# Altium schematic symbol library IC_all.SchLib: 10 symbols
Pins are listed as number, name and electrical type; pins without a type are passive.

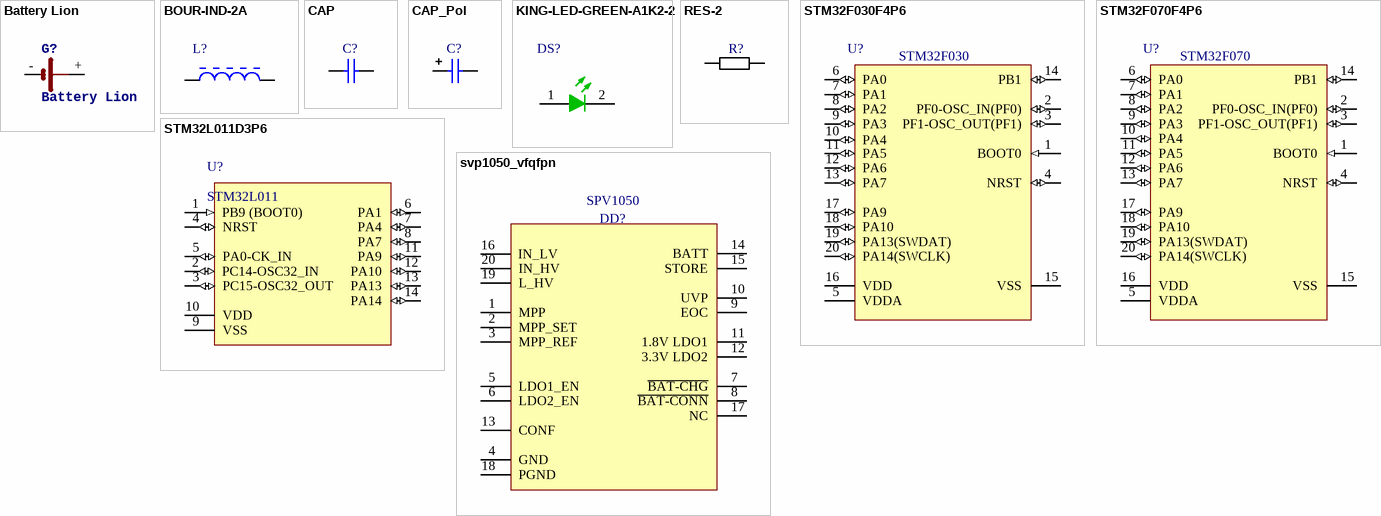
[diagram p0: symbols Battery Lion to svp1050_vfqfpn]

## Battery Lion
designator G?
footprint ML1220 (Litium battery 3V rechargable)
footprint ML2020 (Litium battery 3V rechargable)
pins: +, -

## BOUR-IND-2A
designator L?
footprint BOUR-CM322522_V (Inductor, 2-Leads, Body 3.2x2.5mm, Pitch 3.05mm)
footprint BOUR-SDR0403-2_V (SMD, 2-Leads, Dia 4.5mm, Height 3.5mm)
footprint BOUR-SRN3015-2_V (SMD, 2-Leads, Body 3x3mm, Height 1.5mm)
footprint BOUR-SRU2013-2R2Y-2_V (Hand Drawn, 2-Leads, Body 2.8x2.8mm)
pins: 1, 2

## CAP
designator C?  (value not drawn)
footprint CAPC0603(1608)100_L (Chip Capacitor, Body 1.6x0.8mm, Height 1.0mm, IPC High Density)
footprint CAPC0603(1608)100_N (Chip Capacitor, Body 1.6x0.8mm, Height 1.0mm, IPC Medium Density)
footprint CAPC0805(2012)75_L (Chip Capacitor, Body 2.0x1.2mm, Height 0.75mm, IPC High Density)
footprint CAPC0805(2012)100_N (Chip Capacitor, Body 2.0x1.2mm, Height 1.0mm, IPC Medium Density)
pins: 1, 2
1 alternate drawing of the same symbol

## CAP_Pol
designator C?, comment CAP_pol  (value not drawn)
footprint EEC-S0HD224HN (Supercap)
pins: + 1, - 2
1 alternate drawing of the same symbol

## KING-LED-GREEN-A1K2-2
designator DS?
pins: 1 A, 2 K

## RES-2
designator R?
footprint RESC0805(2012)_N (Chip Resistor, Body 2.0x1.3mm, IPC Medium Density)
footprint RESC0603(1608)_L (Chip Resistor, Body 1.6x0.8mm, IPC High Density)
footprint RESC0603(1608)_N (Chip Resistor, Body 1.6x0.8mm, IPC Medium Density)
footprint RESC0805(2012)_L (Chip Resistor, Body 2.0x1.3mm, IPC High Density)
pins: 1, 2
1 alternate drawing of the same symbol

## STM32F030F4P6
designator U?, comment STM32F030
ARM Cortex-M0 32-bit MCU, 32 KB Flash, 4 KB Internal RAM, 15 I/Os, 20-pin TSSOP, -40 to 85 degC, Tube; PartNumber: STM32F050F6P6; FLASH Size (Prog) (kB): 32; I/Os (High Current): 15; Internal RAM Size (kB): 4; Operating Frequency(F) (Processor speed) (MHz): 48; Supply Voltage(Vcc) min (V): 2; DatasheetVersion: Rev. 1; PackageVersion: Rev. 1, 11/2012; PackageReference: TSSOP20; PackageDescription: 20-Pin Thin Shrink Small Outline Package, 6.5 x 4.4 mm Body, 0.65 mm Pitch; Supplier 1: Digi-Key; Supplier Part Number 1: STM32F050F6P6-ND; Supplier 2: Farnell; Supplier Part Number 2: 2333136; Supplier 3: Newark; Supplier Part Number 3: 99W9749; Supplier 4: Newark; Supplier Part Number 4: 89W1489; Supplier 5: Mouser; Supplier Part Number 5: 511-STM32F050F6P6; Core: ARM Cortex-M0; Packing: Tube; Mounting Technology: Surface Mount; ComponentLink1Description: Manufacturer URL; ComponentLink1URL: http://www.st.com/web/en/home.html; ComponentLink2Description: Datasheet; ComponentLink2URL: http://www.st.com/st-web-ui/static/active/en/resource/technical/document/datasheet/DM00065136.pdf; ComponentLink3Description: Package Specification; ComponentLink3URL: http://www.st.com/st-web-ui/static/active/en/resource/technical/document/datasheet/DM00065136.pdf
footprint SOP127P600-8N
pins: 1 BOOT0 (in) "Boot memory selection", 2 PF0-OSC_IN(PF0) (io) "PF0-OSC_IN(PF0)/OSC_IN", 3 PF1-OSC_OUT(PF1) (io) "PF1-OSC_OUT(PF1)/OSC_OUT", 4 NRST (io) "Device reset input / internal reset output (active low)", 5 VDDA (power) "Analog power supply", 6 PA0 (io) "PA0/TIM2_CH1_ETR,USART1_CTS/ADC_IN0,RTC_TAMP2,WKUP1", 7 PA1 (io) "PA1/TIM2_CH2,EVENTOUT,USART1_RTS/ADC_IN1", 8 PA2 (io) "PA2/TIM2_CH3,USART1_TX/ADC_IN2", 9 PA3 (io) "PA3/TIM2_CH4,USART1_RX/ADC_IN3", 10 PA4 (io) "PA4/SPI1_NSS,I2S1_WS,TIM14_CH1,USART1_CK/ADC_IN4", 11 PA5 (io) "PA5/SPI1_SCK,I2S1_CK,TIM2_CH1_ETR/ADC_IN5", 12 PA6 (io) "PA6/SPI1_MISO,I2S1_MCK,TIM3_CH1,TIM1_BKIN,TIM16_CH1,EVENTOUT/ADC_IN6", 13 PA7 (io) "PA7/SPI1_MOSI,I2S1_SD,TIM3_CH2,TIM14_CH1,TIM1_CH1N,TIM17_CH1,EVENTOUT/ADC_IN7", 14 PB1 (io) "PB1/TIM3_CH4,TIM14_CH1,TIM1_CH3N/ADC_IN9", 15 VSS (power) "Ground", 16 VDD (power) "Digital power supply", 17 PA9 (io) "PA9/USART1_TX,TIM1_CH2,I2C1_SCL", 18 PA10 (io) "PA10/USART1_RX,TIM1_CH3,TIM17_BKIN,I2C1_SDA", 19 PA13(SWDAT) (io) "PA13(SWDAT)/IR_OUT,SWDAT", 20 PA14(SWCLK) (io) "PA14(SWCLK)/SWCLK,USART1_TX"

## STM32F070F4P6
designator U?, comment STM32F070
ARM Cortex-M0 32-bit MCU, 32 KB Flash, 4 KB Internal RAM, 15 I/Os, 20-pin TSSOP, -40 to 85 degC, Tube; PartNumber: STM32F050F6P6; FLASH Size (Prog) (kB): 32; I/Os (High Current): 15; Internal RAM Size (kB): 4; Operating Frequency(F) (Processor speed) (MHz): 48; Supply Voltage(Vcc) min (V): 2; DatasheetVersion: Rev. 1; PackageVersion: Rev. 1, 11/2012; PackageReference: TSSOP20; PackageDescription: 20-Pin Thin Shrink Small Outline Package, 6.5 x 4.4 mm Body, 0.65 mm Pitch; Supplier 1: Digi-Key; Supplier Part Number 1: STM32F050F6P6-ND; Supplier 2: Farnell; Supplier Part Number 2: 2333136; Supplier 3: Newark; Supplier Part Number 3: 99W9749; Supplier 4: Newark; Supplier Part Number 4: 89W1489; Supplier 5: Mouser; Supplier Part Number 5: 511-STM32F050F6P6; Core: ARM Cortex-M0; Packing: Tube; Mounting Technology: Surface Mount; ComponentLink1Description: Manufacturer URL; ComponentLink1URL: http://www.st.com/web/en/home.html; ComponentLink2Description: Datasheet; ComponentLink2URL: http://www.st.com/st-web-ui/static/active/en/resource/technical/document/datasheet/DM00065136.pdf; ComponentLink3Description: Package Specification; ComponentLink3URL: http://www.st.com/st-web-ui/static/active/en/resource/technical/document/datasheet/DM00065136.pdf
footprint SOP127P600-8N
pins: 1 BOOT0 (in) "Boot memory selection", 2 PF0-OSC_IN(PF0) (io) "PF0-OSC_IN(PF0)/OSC_IN", 3 PF1-OSC_OUT(PF1) (io) "PF1-OSC_OUT(PF1)/OSC_OUT", 4 NRST (io) "Device reset input / internal reset output (active low)", 5 VDDA (power) "Analog power supply", 6 PA0 (io) "PA0/TIM2_CH1_ETR,USART1_CTS/ADC_IN0,RTC_TAMP2,WKUP1", 7 PA1 (io) "PA1/TIM2_CH2,EVENTOUT,USART1_RTS/ADC_IN1", 8 PA2 (io) "PA2/TIM2_CH3,USART1_TX/ADC_IN2", 9 PA3 (io) "PA3/TIM2_CH4,USART1_RX/ADC_IN3", 10 PA4 (io) "PA4/SPI1_NSS,I2S1_WS,TIM14_CH1,USART1_CK/ADC_IN4", 11 PA5 (io) "PA5/SPI1_SCK,I2S1_CK,TIM2_CH1_ETR/ADC_IN5", 12 PA6 (io) "PA6/SPI1_MISO,I2S1_MCK,TIM3_CH1,TIM1_BKIN,TIM16_CH1,EVENTOUT/ADC_IN6", 13 PA7 (io) "PA7/SPI1_MOSI,I2S1_SD,TIM3_CH2,TIM14_CH1,TIM1_CH1N,TIM17_CH1,EVENTOUT/ADC_IN7", 14 PB1 (io) "PB1/TIM3_CH4,TIM14_CH1,TIM1_CH3N/ADC_IN9", 15 VSS (power) "Ground", 16 VDD (power) "Digital power supply", 17 PA9 (io) "PA9/USART1_TX,TIM1_CH2,I2C1_SCL", 18 PA10 (io) "PA10/USART1_RX,TIM1_CH3,TIM17_BKIN,I2C1_SDA", 19 PA13(SWDAT) (io) "PA13(SWDAT)/IR_OUT,SWDAT", 20 PA14(SWCLK) (io) "PA14(SWCLK)/SWCLK,USART1_TX"

## STM32L011D3P6
designator U?, comment STM32L011
ARM Cortex-M0 32-bit MCU, 32 KB Flash, 4 KB Internal RAM, 15 I/Os, 20-pin TSSOP, -40 to 85 degC, Tube; PartNumber: STM32F050F6P6; FLASH Size (Prog) (kB): 32; I/Os (High Current): 15; Internal RAM Size (kB): 4; Operating Frequency(F) (Processor speed) (MHz): 48; Supply Voltage(Vcc) min (V): 2; DatasheetVersion: Rev. 1; PackageVersion: Rev. 1, 11/2012; PackageReference: TSSOP20; PackageDescription: 20-Pin Thin Shrink Small Outline Package, 6.5 x 4.4 mm Body, 0.65 mm Pitch; Supplier 1: Digi-Key; Supplier Part Number 1: STM32F050F6P6-ND; Supplier 2: Farnell; Supplier Part Number 2: 2333136; Supplier 3: Newark; Supplier Part Number 3: 99W9749; Supplier 4: Newark; Supplier Part Number 4: 89W1489; Supplier 5: Mouser; Supplier Part Number 5: 511-STM32F050F6P6; Core: ARM Cortex-M0; Packing: Tube; Mounting Technology: Surface Mount; ComponentLink1Description: Manufacturer URL; ComponentLink1URL: http://www.st.com/web/en/home.html; ComponentLink2Description: Datasheet; ComponentLink2URL: http://www.st.com/st-web-ui/static/active/en/resource/technical/document/datasheet/DM00065136.pdf; ComponentLink3Description: Package Specification; ComponentLink3URL: http://www.st.com/st-web-ui/static/active/en/resource/technical/document/datasheet/DM00065136.pdf
footprint TSOP65P640X120-14N1 (TSOP, 14-Leads, Body 5.00x4.40mm, Pitch 0.65mm, IPC Medium Density)
pins: 1 PB9 (BOOT0) (in) "Boot memory selection", 2 PC14-OSC32_IN (io) "PF0-OSC_IN(PF0)/OSC_IN", 3 PC15-OSC32_OUT (io) "PF1-OSC_OUT(PF1)/OSC_OUT", 4 NRST (io) "Device reset input / internal reset output (active low)", 5 PA0-CK_IN (io) "Analog power supply", 6 PA1 (io) "PA0/TIM2_CH1_ETR,USART1_CTS/ADC_IN0,RTC_TAMP2,WKUP1", 7 PA4 (io) "PA1/TIM2_CH2,EVENTOUT,USART1_RTS/ADC_IN1", 8 PA7 (io) "PA2/TIM2_CH3,USART1_TX/ADC_IN2", 9 VSS (power) "PA3/TIM2_CH4,USART1_RX/ADC_IN3", 10 VDD (power) "PA4/SPI1_NSS,I2S1_WS,TIM14_CH1,USART1_CK/ADC_IN4", 11 PA9 (io) "PA5/SPI1_SCK,I2S1_CK,TIM2_CH1_ETR/ADC_IN5", 12 PA10 (io) "PA6/SPI1_MISO,I2S1_MCK,TIM3_CH1,TIM1_BKIN,TIM16_CH1,EVENTOUT/ADC_IN6", 13 PA13 (io) "PA7/SPI1_MOSI,I2S1_SD,TIM3_CH2,TIM14_CH1,TIM1_CH1N,TIM17_CH1,EVENTOUT/ADC_IN7", 14 PA14 (io) "PB1/TIM3_CH4,TIM14_CH1,TIM1_CH3N/ADC_IN9"

## svp1050_vfqfpn
designator DD?, comment SPV1050
Ultralow power energy harvester and battery charger
footprint QFN40P300X300X100_HS-21N (QFN, 20-Leads, Body 3.00x3.00mm, Pitch 0.40mm, Thermal Pad 1.60x1.60mm, IPC Medium Density)
footprint QFN40P300X300X100_HS-21L (QFN, 20-Leads, Body 3.00x3.00mm, Pitch 0.40mm, Thermal Pad 1.60x1.60mm, IPC High Density)
pins: 1 MPP, 2 MPP_SET, 3 MPP_REF, 4 GND, 5 LDO1_EN, 6 LDO2_EN, 7 ~{BAT-CHG}, 8 ~{BAT-CONN}, 9 EOC, 10 UVP, 11 1.8V LDO1, 12 3.3V LDO2, 13 CONF, 14 BATT, 15 STORE, 16 IN_LV, 17 NC, 18 PGND, 19 L_HV, 20 IN_HV